# Altium schematic symbol library Op Amps.SchLib: 1 symbol
Pins are listed as number, name and electrical type; pins without a type are passive.

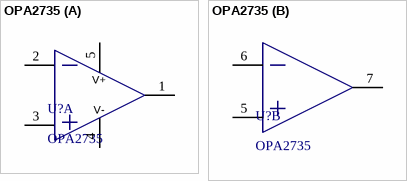
[diagram p0: symbol OPA2735]

## OPA2735
designator U?
Supplier 1: Farnell
footprint TSOP65P490X110-8N (TSOP, 8-Leads, Body 3.00x3.00mm, Pitch 0.65mm, IPC Medium Density)
part A pins: 1 OUT, 2 IN-, 3 IN+, 4 V-, 5 FLAG
part B pins: 5 IN+, 6 IN-, 7 OUT
part A text: V+